# Altium footprint library WE-AGDT.PcbLib: 2 footprints
Each footprint in its own frame and in the unit in brackets; x right, y up, seen from the top. Pads: shape width x height; smd on the part's side, far side on the other; paste and mask are expansions set on the pad; w line width, h text height; cw(c..) or ccw(c..) is an arc to the next point about the centre after c.
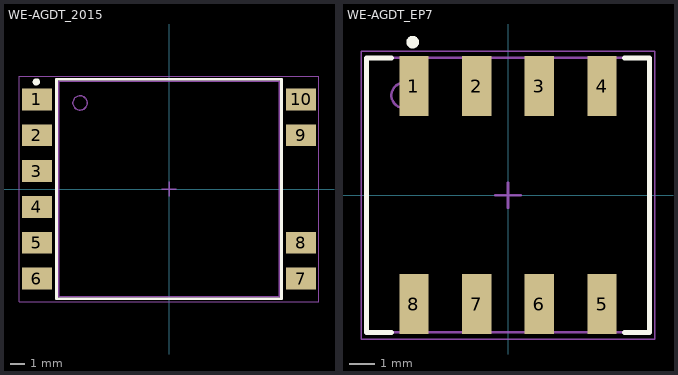
[diagram p0: the footprints below, top view; thin cyan lines are the x and y axes]

## WE-AGDT_2015 [mm]
height 10.3
pads (10):
  rect 2.11x1.52 smd: 1(-9.205,6.25) 2(-9.205,3.75) 3(-9.205,1.25) 4(-9.205,-1.25) 5(-9.205,-3.75) 6(-9.205,-6.25) 7(9.205,-6.25) 8(9.205,-3.75) 9(9.205,3.75) 10(9.205,6.25)
Top Overlay:
  circle w0.25: c-9.255,7.47 r0.125
  lines w0.2: -7.855,-7.655 7.855,-7.655 7.855,7.655 -7.855,7.655 -7.855,-7.655
Top Assembly:
  circle w0.1: c-6.2,6 r0.5
  lines w0.1: -7.855,-7.655 -7.855,7.655 7.855,7.655 7.855,-7.655 -7.855,-7.655
Top Designator:
  text ".Designator" at -3.647,-0.357 h1
Top 3D Body:
  circle w0.1: c-6.2,6 r0.5
  lines w0.1: -7.7,-7.5 -7.7,7.5 7.7,7.5 7.7,-7.5 -7.7,-7.5
Top Courtyard:
  lines w0.05: -10.46,-7.855 10.46,-7.855 10.46,7.855 -10.46,7.855 -10.46,-7.855
Top Component Center:
  lines w0.1: -0.5,0 0.5,0 ; 0,-0.5 0,0.5
3D body "250-1281_ENi_20240130.step": height 9.86, standoff 0.01, extent -9.73,-7.5 9.73,7.5

## WE-AGDT_EP7 [mm] "Auxiliary Gate Drive Transformer, EP7 SMT, body 11.3x10.95mm"
height 11.94
pads (8):
  rect 1.17x2.39 smd: 1(-3.75,4.345) 2(-1.25,4.345) 3(1.25,4.345) 4(3.75,4.345) 5(3.75,-4.345) 6(1.25,-4.345) 7(-1.25,-4.345) 8(-3.75,-4.345)
Top Overlay:
  circle w0.25: c-3.8,6.1 r0.125
  lines w0.2: -4.65,-5.475 -5.65,-5.475 -5.65,5.475 -4.65,5.475 ; 4.65,-5.475 5.65,-5.475 5.65,5.475 4.65,5.475
Top Assembly:
  circle w0.1: c-4.15,3.975 r0.5
  lines w0.1: -5.65,-5.475 5.65,-5.475 5.65,5.475 -5.65,5.475 -5.65,-5.475
Top Designator:
  text ".Designator" at -3.647,-0.357 h1
Top 3D Body:
  circle w0.1: c-4.15,3.975 r0.5
  lines w0.1: -5.65,-5.475 5.65,-5.475 5.65,5.475 -5.65,5.475 -5.65,-5.475
Top Courtyard:
  lines w0.05: -5.85,-5.74 5.85,-5.74 5.85,5.74 -5.85,5.74 -5.85,-5.74
Top Component Center:
  lines w0.1: -0.5,0 0.5,0 ; 0,-0.5 0,0.5
3D body "75031xxxx.stp": height 11.56, standoff 0, extent -5.55,-5.05 5.55,5.05